# EAGLE library part TPS1035 (library Audio-Power-amlifier V.2.0)
TPS1035 is a MONO ended 20W continuous average power per channel, Class-T Digital Audio Power A m p l i f i e r u s i n g T r i p a t h ’ s p r o p r i e t a r y D i g i t a l P o w e r P r o c e s s i n gT M t e c h n o l o g y .
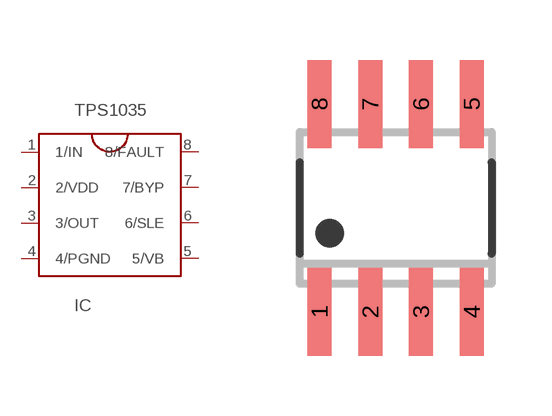
[diagram p89: symbol with the pads of SOIC08_JEDEC_300MIL; footprint SOIC08_JEDEC_300MIL]

Designator prefix IC

## TPS1035  [SOIC08_JEDEC_300MIL]
1  1/IN
2  2/VDD  pwr
3  3/OUT  out
4  4/PGND  pwr
5  5/VB
6  6/SLE
7  7/BYP
8  8/FAULT

## Footprint SOIC08_JEDEC_300MIL (pad centres in mm)
SOIC 08 JEDEC 150mil Small Outline Narrow Plastic Gull Wing 150-mil body, package type SN
smd 0.6 x 2.2: 1 -1.905,-2.6; 2 -0.635,-2.6; 3 0.635,-2.6; 4 1.905,-2.6; 5 1.905,2.6; 6 0.635,2.6; 7 -0.635,2.6; 8 -1.905,2.6